# Altium schematic symbol library INA826.SchLib: 1 symbol
Pins are listed as number, name and electrical type; pins without a type are passive.

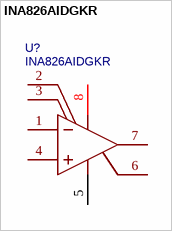
[diagram p0: symbol INA826AIDGKR]

## INA826AIDGKR
designator U?
200μA 电源电流、36V 电源精密仪表放大器; Manufacturer: TI(德州仪器); Supplier: LCSC; Manufacturer Part: INA826AIDGKR; Supplier Part: C51631; JLCPCB Part Class: Extended Part; spicePre: U; spiceSymbolName: INA826AIDGKR
footprint VSSOP-8_L3.0-W3.0-P0.65-LS5.0-BL
pins: 1 IN-, 2 RG, 3 RG, 4 IN+, 5 VS-, 6 REF, 7 VOUT, 8 VS+